# Altium schematic symbol library VoltageRegulator.SchLib: 4 symbols
Pins are listed as number, name and electrical type; pins without a type are passive.

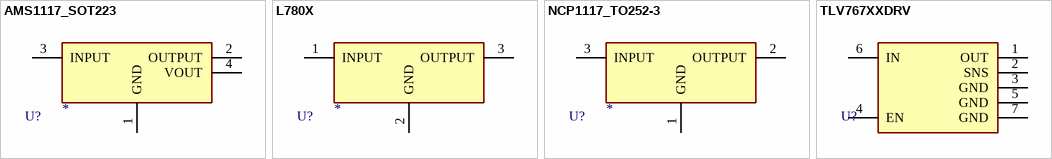
[diagram p0: symbols AMS1117_SOT223 to TLV767XXDRV]

## AMS1117_SOT223
designator U?, comment ERP_123-1  (value not drawn)
AMS1117 LDO; Supplier  Part Number 1: *; Supplier  1: *; Package: SOT223; Manufacturer Part Number 1: *; Manufacturer 1: *; ERP: *; Value: *
footprint AMS1117_SOT223
pins: 1 GND (power), 2 OUTPUT, 3 INPUT, 4 VOUT

## L780X
designator U?
IC REG LINEAR 1.5A; Manufacturer 1: STMicroelectronics; Manufacturer Part Number 1: *; Value: *
footprint L78_D2PAK (IC REG LINEAR 1.5A D2PAK)
pins: 1 INPUT, 2 GND (power), 3 OUTPUT

## NCP1117_TO252-3
designator U?, comment ERP_123-1  (value not drawn)
NCP1117 LDO; Supplier  Part Number 1: *; Supplier  1: *; Package: *; Manufacturer Part Number 1: *; Manufacturer 1: *; ERP: *; Value: *
footprint NCP1117_TO252-3
pins: 1 GND (power), 2 OUTPUT, 3 INPUT

## TLV767XXDRV
designator U?
IC REG LINEAR; Manufacturer Part Number 1: *; Manufacturer 1: *; Value: *
footprint TLV767XXDRV
pins: 1 OUT, 2 SNS, 3 GND, 4 EN, 5 GND, 6 IN, 7 GND